# EAGLE library part LM555CM/NOPB (library LM555CM_NOPB)
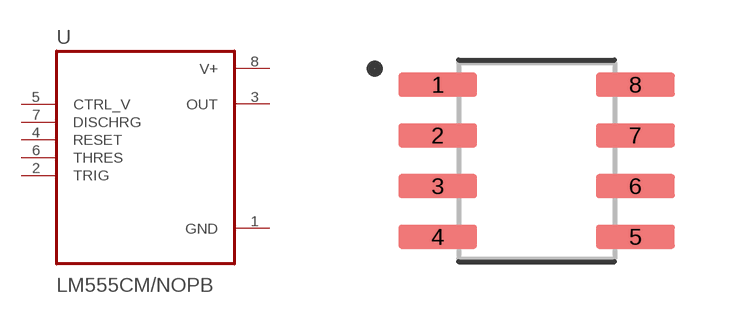
[diagram p0: symbol with the pads of SOIC127P599X175-8N; footprint SOIC127P599X175-8N]

Designator prefix U

## LM555CM/NOPB (Description: Highly Stable 555 Timer 8-SOIC 0 to 70; Digi-Key_Part_Number: LM555CM/NOPB-ND; DigiKey-Purchase-URL: https://snapeda.com/shop?store=DigiKey&id=50124; MF: Texas Instruments; MP: LM555CM/NOPB; Mouser-Purchase-URL: https://snapeda.com/shop?store=Mouser&id=50124; Package: SOIC-8 Texas Instruments; Texas_Instruments-Purchase-URL: https://snapeda.com/shop?store=Texas+Instruments&id=50124)  [SOIC127P599X175-8N]
1  GND  pwr
2  TRIG  in
3  OUT  out
4  RESET  in
5  CTRL_V  in
6  THRES  in
7  DISCHRG  in
8  V+  pwr

## Footprint SOIC127P599X175-8N (pad centres in mm)
smd 1.97 x 0.6: 1 -2.47,1.905; 2 -2.47,0.635; 3 -2.47,-0.635; 4 -2.47,-1.905; 5 2.47,-1.905; 6 2.47,-0.635; 7 2.47,0.635; 8 2.47,1.905